# Altium footprint library sanziqi.PcbLib: 62 footprints (part 2 of 4)
Each footprint in its own frame and in the unit in brackets; x right, y up, seen from the top. Pads: shape width x height; smd on the part's side, far side on the other; paste and mask are expansions set on the pad; w line width, h text height; cw(c..) or ccw(c..) is an arc to the next point about the centre after c.
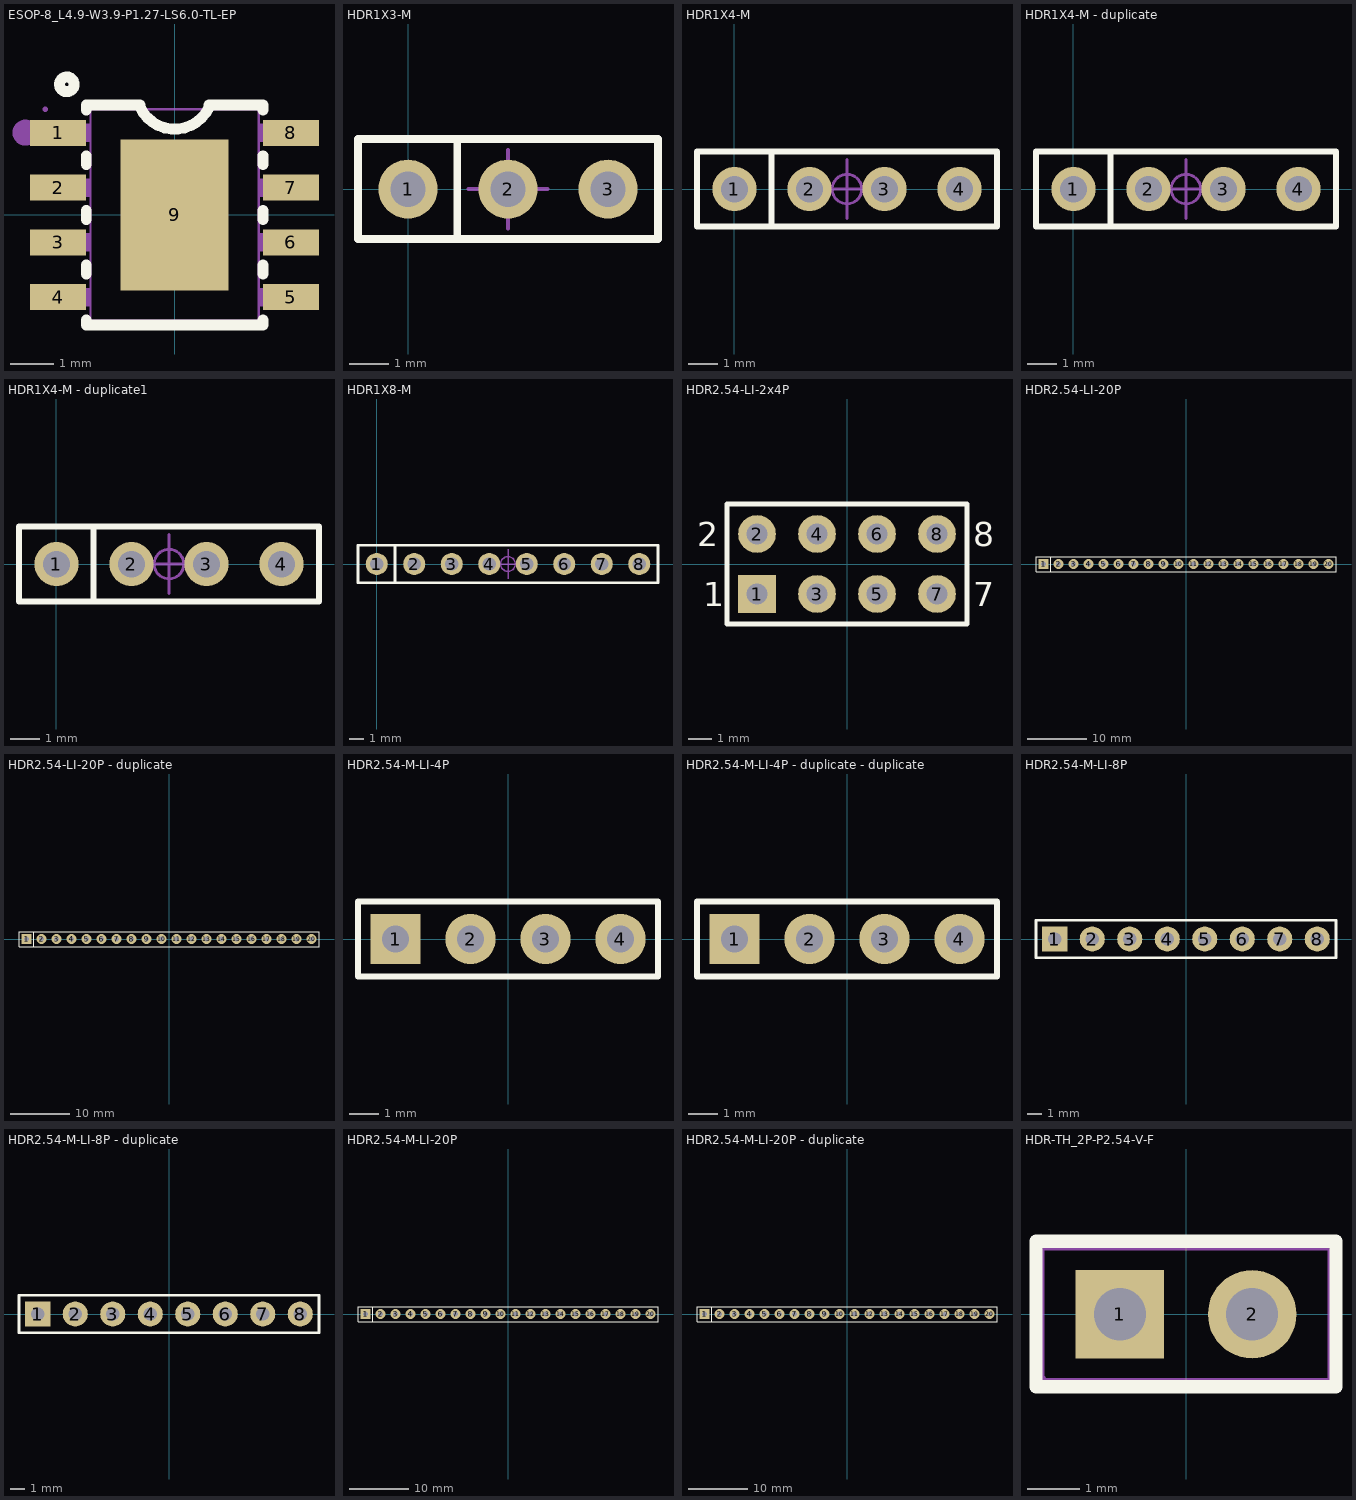
[diagram p1: the footprints below, top view; thin cyan lines are the x and y axes]

## ESOP-8_L4.9-W3.9-P1.27-LS6.0-TL-EP [mm]
pads (9):
  rect 1.3x0.6 smd: 1(-2.7,1.905) 2(-2.7,0.635) 3(-2.7,-0.635) 4(-2.7,-1.905) 5(2.7,-1.905) 6(2.7,-0.635) 7(2.7,0.635) 8(2.7,1.905)
  rect 2.5x3.5 smd: 9(0,0)
Top Overlay:
  circle w0.254: c-2.5,3.03 r0.17
  lines w0.254: -2.05,-2.436 -2.05,-2.55 2.05,-2.55 2.05,-2.436 ; -2.05,-1.374 -2.05,-1.166 ; -2.05,-0.104 -2.05,0.104 ; -2.05,1.166 -2.05,1.374 ; -2.05,2.436 -2.05,2.55 -0.8,2.55 ; -0.8,2.5 ccw(c0,2.875) 0.8,2.5 ; 0.8,2.55 2.05,2.55 2.05,2.436 ; 2.05,-1.374 2.05,-1.166 ; 2.05,-0.104 2.05,0.104 ; 2.05,1.166 2.05,1.374
Mechanical 6:
  circle w0.3: c-3.46,1.91 r0.15
Mechanical 15:
  region: -1.206,-1.65 -1.206,1.65 1.206,1.65 1.206,-1.65
  region: -3,2.115 -2.165,2.115 -2.165,1.695 -3,1.695
  region: -2.175,2.115 -1.94,2.115 -1.94,1.695 -2.175,1.695
  region: -3,0.845 -2.165,0.845 -2.165,0.425 -3,0.425
  region: -2.175,0.845 -1.94,0.845 -1.94,0.425 -2.175,0.425
  region: -3,-0.425 -2.165,-0.425 -2.165,-0.845 -3,-0.845
  region: -2.175,-0.425 -1.94,-0.425 -1.94,-0.845 -2.175,-0.845
  region: -3,-1.695 -2.165,-1.695 -2.165,-2.115 -3,-2.115
  region: -2.175,-1.695 -1.94,-1.695 -1.94,-2.115 -2.175,-2.115
  region: 2.165,-1.695 3,-1.695 3,-2.115 2.165,-2.115
  region: 1.94,-1.695 2.175,-1.695 2.175,-2.115 1.94,-2.115
  region: 2.165,-0.425 3,-0.425 3,-0.845 2.165,-0.845
  region: 1.94,-0.425 2.175,-0.425 2.175,-0.845 1.94,-0.845
  region: 2.165,0.845 3,0.845 3,0.425 2.165,0.425
  region: 1.94,0.845 2.175,0.845 2.175,0.425 1.94,0.425
  region: 2.165,2.115 3,2.115 3,1.695 2.165,1.695
  region: 1.94,2.115 2.175,2.115 2.175,1.695 1.94,1.695
  region: -2.94,2.45 -2.94,2.475 -2.975,2.509 -3.024,2.509 -3.059,2.475 -3.06,2.45 -3.059,2.426 -3.024,2.391 -2.975,2.391 -2.94,2.426 -2.94,2.45
  lines w0.051: -1.95,-2.45 -1.95,2.45 1.95,2.45 1.95,-2.45 -1.95,-2.45

## HDR1X3-M [mm]
height 2
pads (3):
  round 1.5 hole 0.9: 1(0,0) 2(2.54,0) 3(5.08,0)
Top Overlay:
  lines w0.2: 1.25,-1.25 1.25,1.25 ; -1.27,-1.27 6.35,-1.27 6.35,1.27 -1.27,1.27 -1.27,-1.27
Top Component Center:
  circle w0.1: c2.54,0 r0.5
  lines w0.1: 1.54,0 3.54,0 ; 2.54,-1 2.54,1
Top Component Outline:
  lines w0.1: -1.27,-1.27 6.35,-1.27 6.35,1.275 -1.27,1.275 -1.27,-1.27
Top Designator:
  text ".Designator" at 0.288,-0.226 h1
3D body "1001-3.STEP": height 8.54, standoff -3, extent -1.27,-1.27 6.35,1.27

## HDR1X4-M [mm]
height 2
pads (4):
  round 1.5 hole 0.9: 1(0,0) 2(2.54,0) 3(5.08,0) 4(7.62,0)
Top Overlay:
  lines w0.2: 1.25,-1.25 1.25,1.25 ; -1.27,-1.27 8.89,-1.27 8.89,1.27 -1.27,1.27 -1.27,-1.27
Top Component Center:
  circle w0.1: c3.81,0 r0.5
  lines w0.1: 2.81,0 4.81,0 ; 3.81,-1 3.81,1
Top Component Outline:
  lines w0.1: -1.27,-1.27 -1.27,1.275 8.89,1.275 8.89,-1.27 -1.27,-1.27
Top Designator:
  text ".Designator" at 1.558,-0.226 h1
3D body "1001-4.STEP": height 8.54, standoff -3, extent -1.27,-1.27 8.89,1.27

## HDR1X4-M - duplicate [mm]
height 2
pads (4):
  round 1.5 hole 0.9: 1(0,0) 2(2.54,0) 3(5.08,0) 4(7.62,0)
Top Overlay:
  lines w0.2: 1.25,-1.25 1.25,1.25 ; -1.27,-1.27 -1.27,1.27 8.89,1.27 8.89,-1.27 -1.27,-1.27
Top Component Center:
  circle w0.1: c3.81,0 r0.5
  lines w0.1: 2.81,0 4.81,0 ; 3.81,-1 3.81,1
Top Component Outline:
  lines w0.1: -1.27,-1.27 8.89,-1.27 8.89,1.275 -1.27,1.275 -1.27,-1.27
Top Designator:
  text ".Designator" at 1.558,-0.226 h1
3D body "1001-4.STEP": height 8.54, standoff -3, extent -1.27,-1.27 8.89,1.27

## HDR1X4-M - duplicate1 [mm]
height 2
pads (4):
  round 1.5 hole 0.9: 1(0,0) 2(2.54,0) 3(5.08,0) 4(7.62,0)
Top Overlay:
  lines w0.2: 1.25,-1.25 1.25,1.25 ; -1.27,-1.27 8.89,-1.27 8.89,1.27 -1.27,1.27 -1.27,-1.27
Top Component Center:
  circle w0.1: c3.81,0 r0.5
  lines w0.1: 2.81,0 4.81,0 ; 3.81,-1 3.81,1
Top Component Outline:
  lines w0.1: -1.27,-1.27 -1.27,1.275 8.89,1.275 8.89,-1.27 -1.27,-1.27
Top Designator:
  text ".Designator" at 1.558,-0.226 h1
3D body "1001-4.STEP": height 8.54, standoff -3, extent -1.27,-1.27 8.89,1.27

## HDR1X8-M [mm]
height 2
pads (8):
  round 1.5 hole 0.9: 1(0,0) 2(2.54,0) 3(5.08,0) 4(7.62,0) 5(10.16,0) 6(12.7,0) 7(15.24,0) 8(17.78,0)
Top Overlay:
  lines w0.2: 1.25,-1.25 1.25,1.25 ; -1.27,-1.27 19.05,-1.27 19.05,1.27 -1.27,1.27 -1.27,-1.27
Top Component Center:
  circle w0.1: c8.89,0 r0.5
  lines w0.1: 7.89,0 9.89,0 ; 8.89,-1 8.89,1
Top Component Outline:
  lines w0.1: -1.27,-1.27 19.05,-1.27 19.05,1.27 -1.27,1.27 -1.27,-1.27
Top Designator:
  text ".Designator" at 6.638,-0.226 h1
3D body "1001-8.STEP": height 8.54, standoff -3, extent -1.27,-1.27 19.05,1.27

## HDR2.54-LI-2x4P [mm] "双排排针，4x2脚"
pads (8):
  rect 1.6x1.6 hole 0.9: 1(-3.81,-1.27)
  round 1.6 hole 0.9: 2(-3.81,1.27) 3(-1.27,-1.27) 4(-1.27,1.27) 5(1.27,-1.27) 6(1.27,1.27) 7(3.81,-1.27) 8(3.81,1.27)
Top Overlay:
  lines w0.2: -2.328,-2.54 5.08,-2.54 5.08,2.54 -5.08,2.54 -5.08,-2.54 2.54,-2.54
  text "7" at 5.334,-1.778 h1.02
  text "2" at -6.35,0.762 h1.02
  text "1" at -6.096,-1.778 h1.02
  text "8" at 5.334,0.762 h1.02
3D body "HDR2.54-1x2P.STEP": height 8.5, standoff -3, extent 0,-2.54 2.54,2.54
3D body "HDR2.54-1x2P.STEP": height 8.5, standoff -3, extent 2.54,-2.54 5.08,2.54
3D body "HDR2.54-1x2P.STEP": height 8.5, standoff -3, extent -5.08,-2.54 -2.54,2.54
3D body "HDR2.54-1x2P.STEP": height 8.5, standoff -3, extent -2.54,-2.54 0,2.54

## HDR2.54-LI-20P [mm] "排针，20脚"
pads (20):
  rect 1.7x1.7 hole 0.9: 1(-24.13,0)
  round 1.7 hole 0.9: 2(-21.59,0) 3(-19.05,0) 4(-16.51,0) 5(-13.97,0) 6(-11.43,0) 7(-8.89,0) 8(-6.35,0) 9(-3.81,0) 10(-1.27,0) 11(1.27,0) 12(3.81,0) 13(6.35,0) 14(8.89,0) 15(11.43,0) 16(13.97,0)
  round 1.7 hole 0.762: 17(16.51,0) 18(19.05,0) 19(21.59,0) 20(24.13,0)
Top Overlay:
  lines w0.2: -22.88,-1.25 -22.88,1.25 ; -25.4,-1.27 -25.4,1.27 -23.495,1.27 25.4,1.27 25.4,-1.27 -25.4,-1.27
3D body "HDR2.54-1P.STEP": height 2.54, standoff -8.96, extent -25.4,-1.27 -22.86,1.27
3D body "HDR2.54-1P.STEP": height 2.54, standoff -8.96, extent -22.86,-1.27 -20.32,1.27
3D body "HDR2.54-1P.STEP": height 2.54, standoff -8.96, extent -20.32,-1.27 -17.78,1.27
3D body "HDR2.54-1P.STEP": height 2.54, standoff -8.96, extent -17.78,-1.27 -15.24,1.27
3D body "HDR2.54-1P.STEP": height 2.54, standoff -8.96, extent -15.24,-1.27 -12.7,1.27
3D body "HDR2.54-1P.STEP": height 2.54, standoff -8.96, extent -12.7,-1.27 -10.16,1.27
3D body "HDR2.54-1P.STEP": height 2.54, standoff -8.96, extent -10.16,-1.27 -7.62,1.27
3D body "HDR2.54-1P.STEP": height 2.54, standoff -8.96, extent -7.62,-1.27 -5.08,1.27
3D body "HDR2.54-1P.STEP": height 2.54, standoff -8.96, extent -5.08,-1.27 -2.54,1.27
3D body "HDR2.54-1P.STEP": height 2.54, standoff -8.96, extent -2.54,-1.27 0,1.27
3D body "HDR2.54-1P.STEP": height 2.54, standoff -8.96, extent 0,-1.27 2.54,1.27
3D body "HDR2.54-1P.STEP": height 2.54, standoff -8.96, extent 2.54,-1.27 5.08,1.27
3D body "HDR2.54-1P.STEP": height 2.54, standoff -8.96, extent 5.08,-1.27 7.62,1.27
3D body "HDR2.54-1P.STEP": height 2.54, standoff -8.96, extent 7.62,-1.27 10.16,1.27
3D body "HDR2.54-1P.STEP": height 2.54, standoff -8.96, extent 10.16,-1.27 12.7,1.27
3D body "HDR2.54-1P.STEP": height 2.54, standoff -8.96, extent 12.7,-1.27 15.24,1.27
3D body "HDR2.54-1P.STEP": height 2.54, standoff -8.96, extent 15.24,-1.27 17.78,1.27
3D body "HDR2.54-1P.STEP": height 2.54, standoff -8.96, extent 17.78,-1.27 20.32,1.27
3D body "HDR2.54-1P.STEP": height 2.54, standoff -8.96, extent 20.32,-1.27 22.86,1.27
3D body "HDR2.54-1P.STEP": height 2.54, standoff -8.96, extent 22.86,-1.27 25.4,1.27

## HDR2.54-LI-20P - duplicate [mm] "排针，20脚"
pads (20):
  rect 1.7x1.7 hole 0.9: 1(-24.13,0)
  round 1.7 hole 0.9: 2(-21.59,0) 3(-19.05,0) 4(-16.51,0) 5(-13.97,0) 6(-11.43,0) 7(-8.89,0) 8(-6.35,0) 9(-3.81,0) 10(-1.27,0) 11(1.27,0) 12(3.81,0) 13(6.35,0) 14(8.89,0) 15(11.43,0) 16(13.97,0)
  round 1.7 hole 0.762: 17(16.51,0) 18(19.05,0) 19(21.59,0) 20(24.13,0)
Top Overlay:
  lines w0.2: -22.88,-1.25 -22.88,1.25 ; -25.4,-1.27 25.4,-1.27 25.4,1.27 -23.495,1.27 -25.4,1.27 -25.4,-1.27
3D body "HDR2.54-1P.STEP": height 2.54, standoff -8.96, extent 22.86,-1.27 25.4,1.27
3D body "HDR2.54-1P.STEP": height 2.54, standoff -8.96, extent 20.32,-1.27 22.86,1.27
3D body "HDR2.54-1P.STEP": height 2.54, standoff -8.96, extent 17.78,-1.27 20.32,1.27
3D body "HDR2.54-1P.STEP": height 2.54, standoff -8.96, extent 15.24,-1.27 17.78,1.27
3D body "HDR2.54-1P.STEP": height 2.54, standoff -8.96, extent 12.7,-1.27 15.24,1.27
3D body "HDR2.54-1P.STEP": height 2.54, standoff -8.96, extent 10.16,-1.27 12.7,1.27
3D body "HDR2.54-1P.STEP": height 2.54, standoff -8.96, extent 7.62,-1.27 10.16,1.27
3D body "HDR2.54-1P.STEP": height 2.54, standoff -8.96, extent 5.08,-1.27 7.62,1.27
3D body "HDR2.54-1P.STEP": height 2.54, standoff -8.96, extent 2.54,-1.27 5.08,1.27
3D body "HDR2.54-1P.STEP": height 2.54, standoff -8.96, extent 0,-1.27 2.54,1.27
3D body "HDR2.54-1P.STEP": height 2.54, standoff -8.96, extent -2.54,-1.27 0,1.27
3D body "HDR2.54-1P.STEP": height 2.54, standoff -8.96, extent -5.08,-1.27 -2.54,1.27
3D body "HDR2.54-1P.STEP": height 2.54, standoff -8.96, extent -7.62,-1.27 -5.08,1.27
3D body "HDR2.54-1P.STEP": height 2.54, standoff -8.96, extent -10.16,-1.27 -7.62,1.27
3D body "HDR2.54-1P.STEP": height 2.54, standoff -8.96, extent -12.7,-1.27 -10.16,1.27
3D body "HDR2.54-1P.STEP": height 2.54, standoff -8.96, extent -15.24,-1.27 -12.7,1.27
3D body "HDR2.54-1P.STEP": height 2.54, standoff -8.96, extent -17.78,-1.27 -15.24,1.27
3D body "HDR2.54-1P.STEP": height 2.54, standoff -8.96, extent -20.32,-1.27 -17.78,1.27
3D body "HDR2.54-1P.STEP": height 2.54, standoff -8.96, extent -22.86,-1.27 -20.32,1.27
3D body "HDR2.54-1P.STEP": height 2.54, standoff -8.96, extent -25.4,-1.27 -22.86,1.27

## HDR2.54-M-LI-4P [mm] "排母，4脚"
pads (4):
  rect 1.7x1.7 hole 0.9: 1(-3.81,0)
  round 1.7 hole 0.9: 2(-1.27,0) 3(1.27,0) 4(3.81,0)
Top Overlay:
  lines w0.2: -5.08,-1.27 5.08,-1.27 5.08,1.27 -5.08,1.27 -5.08,-1.27
3D body "HDR2.54-1P_M.STEP": height 8.5, standoff -3, extent -2.54,-1.27 0,1.27
3D body "HDR2.54-1P_M.STEP": height 8.5, standoff -3, extent -5.08,-1.27 -2.54,1.27
3D body "HDR2.54-1P_M.STEP": height 8.5, standoff -3, extent 2.54,-1.27 5.08,1.27
3D body "HDR2.54-1P_M.STEP": height 8.5, standoff -3, extent 0,-1.27 2.54,1.27

## HDR2.54-M-LI-4P - duplicate - duplicate [mm] "排母，4脚"
pads (4):
  rect 1.7x1.7 hole 0.9: 1(-3.81,0)
  round 1.7 hole 0.9: 2(-1.27,0) 3(1.27,0) 4(3.81,0)
Top Overlay:
  lines w0.2: -5.08,-1.27 -5.08,1.27 5.08,1.27 5.08,-1.27 -5.08,-1.27
3D body "HDR2.54-1P_M.STEP": height 8.5, standoff -3, extent 0,-1.27 2.54,1.27
3D body "HDR2.54-1P_M.STEP": height 8.5, standoff -3, extent 2.54,-1.27 5.08,1.27
3D body "HDR2.54-1P_M.STEP": height 8.5, standoff -3, extent -5.08,-1.27 -2.54,1.27
3D body "HDR2.54-1P_M.STEP": height 8.5, standoff -3, extent -2.54,-1.27 0,1.27

## HDR2.54-M-LI-8P [mm] "排母，8脚"
pads (8):
  rect 1.7x1.7 hole 0.9: 1(-8.89,0)
  round 1.7 hole 0.9: 2(-6.35,0) 3(-3.81,0) 4(-1.27,0) 5(1.27,0) 6(3.81,0) 7(6.35,0) 8(8.89,0)
Top Overlay:
  lines w0.2: -10.16,-1.27 10.16,-1.27 10.16,1.27 -10.16,1.27 -10.16,-1.27
3D body "HDR2.54-1P_M.STEP": height 8.5, standoff -3, extent 5.08,-1.27 7.62,1.27
3D body "HDR2.54-1P_M.STEP": height 8.5, standoff -3, extent 7.62,-1.27 10.16,1.27
3D body "HDR2.54-1P_M.STEP": height 8.5, standoff -3, extent 0,-1.27 2.54,1.27
3D body "HDR2.54-1P_M.STEP": height 8.5, standoff -3, extent 2.54,-1.27 5.08,1.27
3D body "HDR2.54-1P_M.STEP": height 8.5, standoff -3, extent -5.08,-1.27 -2.54,1.27
3D body "HDR2.54-1P_M.STEP": height 8.5, standoff -3, extent -2.54,-1.27 0,1.27
3D body "HDR2.54-1P_M.STEP": height 8.5, standoff -3, extent -10.16,-1.27 -7.62,1.27
3D body "HDR2.54-1P_M.STEP": height 8.5, standoff -3, extent -7.62,-1.27 -5.08,1.27

## HDR2.54-M-LI-8P - duplicate [mm] "排母，8脚"
pads (8):
  rect 1.7x1.7 hole 0.9: 1(-8.89,0)
  round 1.7 hole 0.9: 2(-6.35,0) 3(-3.81,0) 4(-1.27,0) 5(1.27,0) 6(3.81,0) 7(6.35,0) 8(8.89,0)
Top Overlay:
  lines w0.2: -10.16,-1.27 -10.16,1.27 10.16,1.27 10.16,-1.27 -10.16,-1.27
3D body "HDR2.54-1P_M.STEP": height 8.5, standoff -3, extent -7.62,-1.27 -5.08,1.27
3D body "HDR2.54-1P_M.STEP": height 8.5, standoff -3, extent -10.16,-1.27 -7.62,1.27
3D body "HDR2.54-1P_M.STEP": height 8.5, standoff -3, extent -2.54,-1.27 0,1.27
3D body "HDR2.54-1P_M.STEP": height 8.5, standoff -3, extent -5.08,-1.27 -2.54,1.27
3D body "HDR2.54-1P_M.STEP": height 8.5, standoff -3, extent 2.54,-1.27 5.08,1.27
3D body "HDR2.54-1P_M.STEP": height 8.5, standoff -3, extent 0,-1.27 2.54,1.27
3D body "HDR2.54-1P_M.STEP": height 8.5, standoff -3, extent 7.62,-1.27 10.16,1.27
3D body "HDR2.54-1P_M.STEP": height 8.5, standoff -3, extent 5.08,-1.27 7.62,1.27

## HDR2.54-M-LI-20P [mm] "排母，20脚"
pads (20):
  rect 1.7x1.7 hole 0.9: 1(-24.13,0)
  round 1.7 hole 0.9: 2(-21.59,0) 3(-19.05,0) 4(-16.51,0) 5(-13.97,0) 6(-11.43,0) 7(-8.89,0) 8(-6.35,0) 9(-3.81,0) 10(-1.27,0) 11(1.27,0) 12(3.81,0) 13(6.35,0) 14(8.89,0) 15(11.43,0) 16(13.97,0)
  round 1.7 hole 0.762: 17(16.51,0) 18(19.05,0) 19(21.59,0) 20(24.13,0)
Top Overlay:
  lines w0.2: -22.88,-1.25 -22.88,1.25 ; -25.4,-1.27 25.4,-1.27 25.4,1.27 -23.495,1.27 -25.4,1.27 -25.4,-1.27
3D body "HDR2.54-1P_M.STEP": height 8.5, standoff -3, extent 2.54,-1.27 5.08,1.27
3D body "HDR2.54-1P_M.STEP": height 8.5, standoff -3, extent 20.32,-1.27 22.86,1.27
3D body "HDR2.54-1P_M.STEP": height 8.5, standoff -3, extent 22.86,-1.27 25.4,1.27
3D body "HDR2.54-1P_M.STEP": height 8.5, standoff -3, extent 15.24,-1.27 17.78,1.27
3D body "HDR2.54-1P_M.STEP": height 8.5, standoff -3, extent 17.78,-1.27 20.32,1.27
3D body "HDR2.54-1P_M.STEP": height 8.5, standoff -3, extent 10.16,-1.27 12.7,1.27
3D body "HDR2.54-1P_M.STEP": height 8.5, standoff -3, extent 12.7,-1.27 15.24,1.27
3D body "HDR2.54-1P_M.STEP": height 8.5, standoff -3, extent 5.08,-1.27 7.62,1.27
3D body "HDR2.54-1P_M.STEP": height 8.5, standoff -3, extent 7.62,-1.27 10.16,1.27
3D body "HDR2.54-1P_M.STEP": height 8.5, standoff -3, extent 0,-1.27 2.54,1.27
3D body "HDR2.54-1P_M.STEP": height 8.5, standoff -3, extent -5.08,-1.27 -2.54,1.27
3D body "HDR2.54-1P_M.STEP": height 8.5, standoff -3, extent -2.54,-1.27 0,1.27
3D body "HDR2.54-1P_M.STEP": height 8.5, standoff -3, extent -10.16,-1.27 -7.62,1.27
3D body "HDR2.54-1P_M.STEP": height 8.5, standoff -3, extent -7.62,-1.27 -5.08,1.27
3D body "HDR2.54-1P_M.STEP": height 8.5, standoff -3, extent -15.24,-1.27 -12.7,1.27
3D body "HDR2.54-1P_M.STEP": height 8.5, standoff -3, extent -12.7,-1.27 -10.16,1.27
3D body "HDR2.54-1P_M.STEP": height 8.5, standoff -3, extent -20.32,-1.27 -17.78,1.27
3D body "HDR2.54-1P_M.STEP": height 8.5, standoff -3, extent -17.78,-1.27 -15.24,1.27
3D body "HDR2.54-1P_M.STEP": height 8.5, standoff -3, extent -25.4,-1.27 -22.86,1.27
3D body "HDR2.54-1P_M.STEP": height 8.5, standoff -3, extent -22.86,-1.27 -20.32,1.27

## HDR2.54-M-LI-20P - duplicate [mm] "排母，20脚"
pads (20):
  rect 1.7x1.7 hole 0.9: 1(-24.13,0)
  round 1.7 hole 0.9: 2(-21.59,0) 3(-19.05,0) 4(-16.51,0) 5(-13.97,0) 6(-11.43,0) 7(-8.89,0) 8(-6.35,0) 9(-3.81,0) 10(-1.27,0) 11(1.27,0) 12(3.81,0) 13(6.35,0) 14(8.89,0) 15(11.43,0) 16(13.97,0)
  round 1.7 hole 0.762: 17(16.51,0) 18(19.05,0) 19(21.59,0) 20(24.13,0)
Top Overlay:
  lines w0.2: -22.88,-1.25 -22.88,1.25 ; -25.4,-1.27 25.4,-1.27 25.4,1.27 -23.495,1.27 -25.4,1.27 -25.4,-1.27
3D body "HDR2.54-1P_M.STEP": height 8.5, standoff -3, extent 2.54,-1.27 5.08,1.27
3D body "HDR2.54-1P_M.STEP": height 8.5, standoff -3, extent 20.32,-1.27 22.86,1.27
3D body "HDR2.54-1P_M.STEP": height 8.5, standoff -3, extent 22.86,-1.27 25.4,1.27
3D body "HDR2.54-1P_M.STEP": height 8.5, standoff -3, extent 15.24,-1.27 17.78,1.27
3D body "HDR2.54-1P_M.STEP": height 8.5, standoff -3, extent 17.78,-1.27 20.32,1.27
3D body "HDR2.54-1P_M.STEP": height 8.5, standoff -3, extent 10.16,-1.27 12.7,1.27
3D body "HDR2.54-1P_M.STEP": height 8.5, standoff -3, extent 12.7,-1.27 15.24,1.27
3D body "HDR2.54-1P_M.STEP": height 8.5, standoff -3, extent 5.08,-1.27 7.62,1.27
3D body "HDR2.54-1P_M.STEP": height 8.5, standoff -3, extent 7.62,-1.27 10.16,1.27
3D body "HDR2.54-1P_M.STEP": height 8.5, standoff -3, extent 0,-1.27 2.54,1.27
3D body "HDR2.54-1P_M.STEP": height 8.5, standoff -3, extent -5.08,-1.27 -2.54,1.27
3D body "HDR2.54-1P_M.STEP": height 8.5, standoff -3, extent -2.54,-1.27 0,1.27
3D body "HDR2.54-1P_M.STEP": height 8.5, standoff -3, extent -10.16,-1.27 -7.62,1.27
3D body "HDR2.54-1P_M.STEP": height 8.5, standoff -3, extent -7.62,-1.27 -5.08,1.27
3D body "HDR2.54-1P_M.STEP": height 8.5, standoff -3, extent -15.24,-1.27 -12.7,1.27
3D body "HDR2.54-1P_M.STEP": height 8.5, standoff -3, extent -12.7,-1.27 -10.16,1.27
3D body "HDR2.54-1P_M.STEP": height 8.5, standoff -3, extent -20.32,-1.27 -17.78,1.27
3D body "HDR2.54-1P_M.STEP": height 8.5, standoff -3, extent -17.78,-1.27 -15.24,1.27
3D body "HDR2.54-1P_M.STEP": height 8.5, standoff -3, extent -25.4,-1.27 -22.86,1.27
3D body "HDR2.54-1P_M.STEP": height 8.5, standoff -3, extent -22.86,-1.27 -20.32,1.27

## HDR-TH_2P-P2.54-V-F [mm]
pads (2):
  rect 1.7x1.7 hole 1: 1(-1.27,0)
  round 1.7 hole 1: 2(1.27,0)
Top Overlay:
  lines w0.254: -2.88,-1.39 -2.88,1.4 2.88,1.4 2.88,-1.39 -2.88,-1.39
Mechanical 15:
  region: 0.87,0.1 1.67,0.1 1.67,-0.1 0.87,-0.1
  region: -1.67,0.1 -0.87,0.1 -0.87,-0.1 -1.67,-0.1
  region: -2.68,-1.25 -2.68,-1.225 -2.715,-1.19 -2.765,-1.19 -2.8,-1.225 -2.8,-1.25 -2.8,-1.275 -2.765,-1.31 -2.715,-1.31 -2.68,-1.275 -2.68,-1.25
  lines w0.051: -2.74,-1.25 -2.74,1.25 2.74,1.25 2.74,-1.25 -2.74,-1.25